# Altium integrated library SW_balance.IntLib: 25 symbols
Pins are listed as number, name and electrical type; pins without a type are passive.

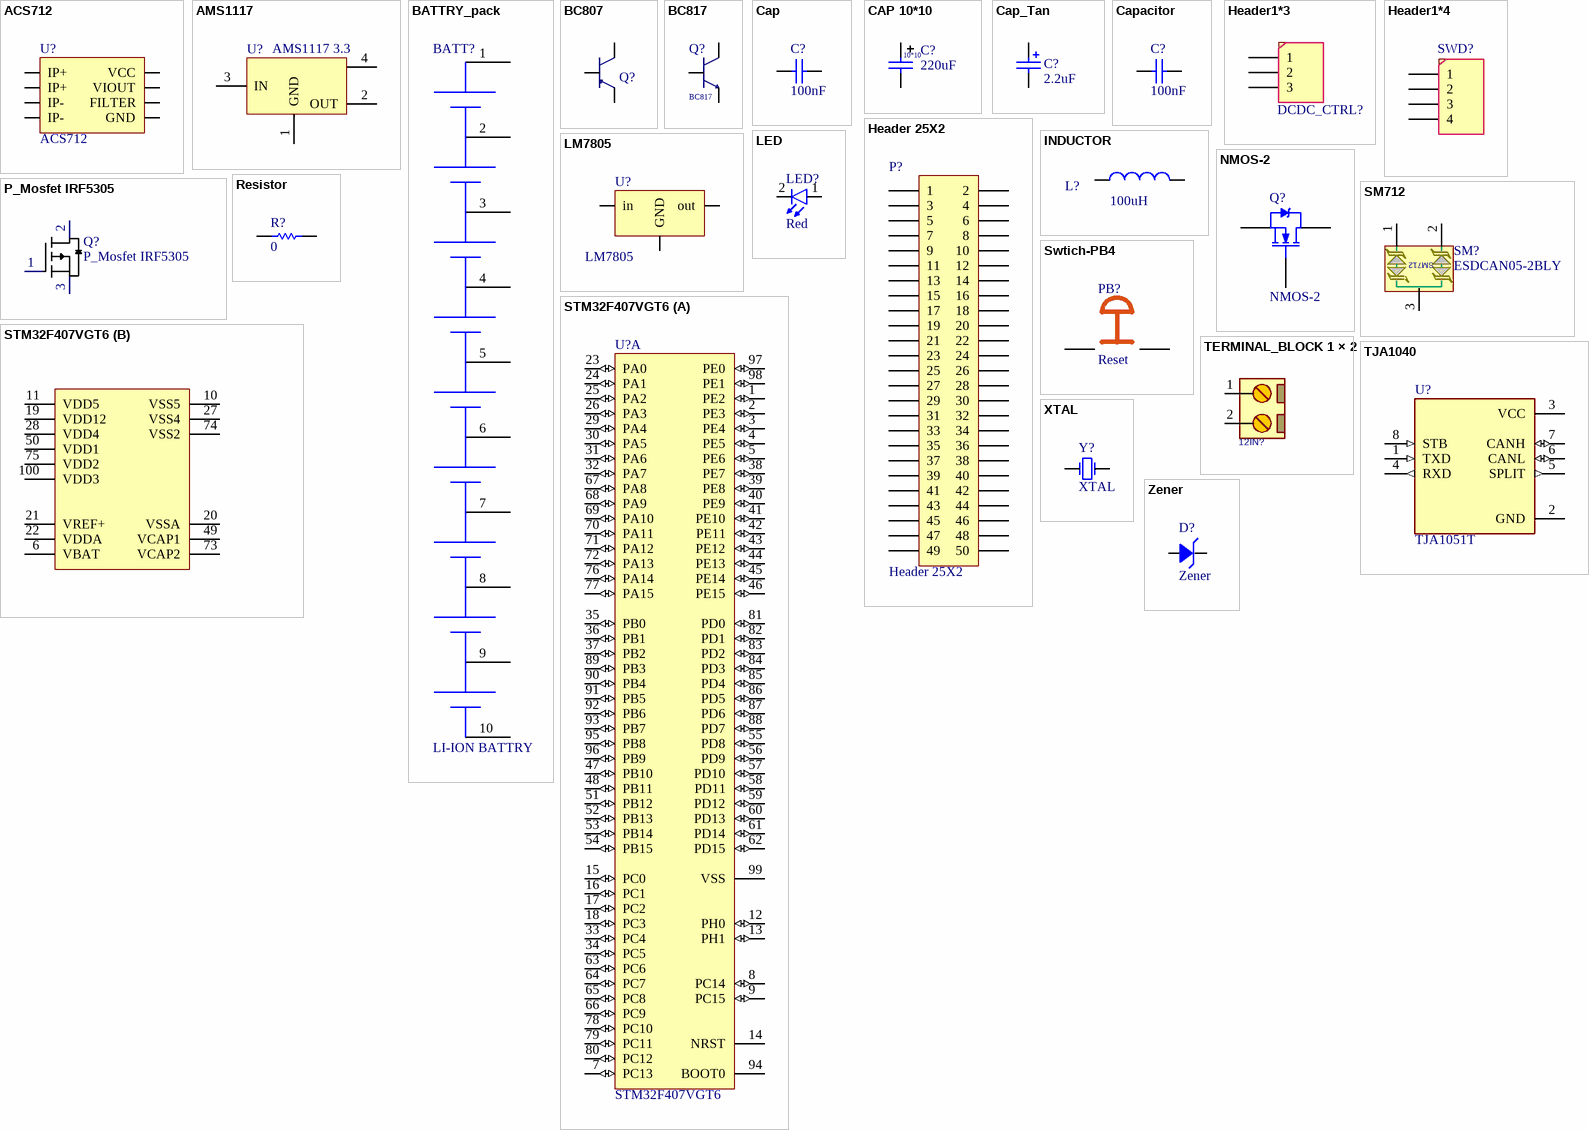
[diagram p0: symbols ACS712 to Zener]

## ACS712
designator U?
Sensing Current
footprint ACS712 (SOIC, 8-Leads, Body 4.90x3.90mm, Pitch 1.27mm, IPC Medium Density)
pins: 1 IP+, 2 IP+, 3 IP-, 4 IP-, 5 GND, 6 FILTER, 7 VIOUT, 8 VCC

## AMS1117
designator U?, comment AMS1117 3.3
footprint AMS1117
pins: 1 GND, 2 OUT, 3 IN, 4 65

## BATTRY_pack
designator BATT?, comment LI-ION BATTRY
footprint terminal block - battery - 2828372 - (terminal block 2 pin)
pins: 1, 2, 3, 4, 5, 6, 7, 8, 9, 10

## BC807
designator Q?, comment PNP  (value not drawn)
45 V, 0.5 A
footprint NPN (SOT23, 3-Leads, Body 2.90x2.45mm, Pitch 0.95mm, IPC Medium Density)
pins: 1 B, 2 E, 3 C

## BC817
designator Q?, comment Transistor: BC817  (hidden comment: NPN transistor)
45 V, 0.5 A
footprint NPN (SOT23, 3-Leads, Body 2.90x2.45mm, Pitch 0.95mm, IPC Medium Density)
pins: 1 B, 2 E, 3 C

## Cap
designator C?, comment 100nF
Capacitor; Published: 8-Jun-2000; LatestRevisionDate: 17-Jul-2002; LatestRevisionNote: Re-released for DXP Platform.; PackageReference: RAD-0.3; Publisher: Altium Limited; PackageDescription: Radial Cap, Thru-Hole; 2 Leads; 0.3 in Pin Spacing; Value: 100nF
footprint CAPC0603
pins: 1, 2

## CAP 10*10
designator C?, comment 220uF
footprint CAPAE220uF-63V (Aluminum Electrolytic Capacitor, Body 13.10x13.10x13.50mm, IPC Low Density)
pins: 1, 2
text: 10*10

## Cap_Tan
designator C?, comment 2.2uF
Tantalium Capacitor Size C; Published: 8-Jun-2000; LatestRevisionDate: 17-Jul-2002; LatestRevisionNote: Re-released for DXP Platform.; PackageReference: C0805; Publisher: Altium Limited
footprint C1206
footprint CAP TAN C (tantalum capacitor c package)
pins: 1, 2
1 alternate drawing of the same symbol

## Capacitor
designator C?, comment 100nF
Capacitor; Published: 8-Jun-2000; LatestRevisionDate: 17-Jul-2002; LatestRevisionNote: Re-released for DXP Platform.; PackageReference: C0805; Publisher: Altium Limited; Value: 100nF
footprint C1206
footprint CAPC0603
pins: 1, 2
1 alternate drawing of the same symbol

## Header1*3
designator DCDC_CTRL?, comment DCDC_CTRL  (value not drawn)
Header, 3-Pin; LatestRevisionDate: 17-Jul-2002; LatestRevisionNote: Re-released for DXP Platform.; Publisher: Altium Limited
footprint HEADER1*3 (2.50mm Male Shrouded Header, 3p)
pins: 1, 2, 3

## Header1*4
designator SWD?
Header, 4-Pin
footprint HEADER1*4 (2.50mm Male Shrouded Header, 4p)
footprint HEADER1*4 (2.50mm Male Shrouded Header, 4p)
pins: 1, 2, 3, 4

## Header 25X2
designator P?
Header, 25-Pin, Dual row; LatestRevisionDate: 17-Jul-2002; LatestRevisionNote: Re-released for DXP Platform.; Publisher: Altium Limited
footprint HDR2X25 (Connector; Header; 25x2 Position)
signal-integrity model Connector
pins: 1, 2, 3, 4, 5, 6, 7, 8, 9, 10, 11, 12, 13, 14, 15, 16, 17, 18, 19, 20, 21, 22, 23, 24, 25, 26, 27, 28, 29, 30, 31, 32, 33, 34, 35, 36, 37, 38, 39, 40, 41, 42, 43, 44, 45, 46, 47, 48, 49, 50

## INDUCTOR
designator L?, comment 100uH
Value: 68uH; Code_IEC: 1005; Published: 8-Jun-2000; Publisher: Altium Limited; LatestRevisionDate: 17-Jul-2002; LatestRevisionNote: Re-released for DXP Platform.; PackageReference: 0402-A; Code_JEITA: 0402
footprint RES1206
pins: 1, 2

## LED
designator LED?, comment Red
LED; Designer: Saeid Jorablo; Organazation: ControTec; Adding Date: 1387/12/22; Color: Red; Size: SMD 0603
footprint LED
pins: 1 A, 2 K

## LM7805
designator U?
IC REG LIN 5V 1A
footprint D2PAK (D2-PAK, 3-Pads, Body 7.93x8.57mm (max), IPC Medium Density)
pins: 1 in, 2 GND, 3 out

## NMOS-2
designator Q?
N-Channel Power MOSFET; Note: Pin 2 is electrically connected to pin 4.; Published: 8-Jun-2000; LatestRevisionDate: 17-Jul-2002; LatestRevisionNote: Re-released for DXP Platform.; DatasheetVersion: PD-9.814; PackageVersion: Feb-1997; PackageReference: TO-220AB; Publisher: Altium Limited; PackageDescription: TO, Thru-Hole, Vertical, Heatsink Mounted; 3 In-Line Leads; Pitch 2.54 mm; ComponentLink1Description: Manufacturer Link; ComponentLink1URL: http://www.irf.com/
footprint dpak (DPAK)
simulation model IRF1010 (Spice Subcircuit)
pins: 1 G, 2 D, 3 S

## P_Mosfet IRF5305
designator Q?
footprint dpak (DPAK)
pins: 1 G, 2 D, 3 S

## Resistor
designator R?, comment 0
0603,0.1W; Published: 8-Jun-2000; LatestRevisionDate: 17-Jul-2002; LatestRevisionNote: Re-released for DXP Platform.; PackageReference: AXIAL-0.5; Publisher: Altium Limited; Value: 0
footprint RESC0603
pins: 1, 2

## SM712
designator SM?, comment ESDCAN05-2BLY
Asymmetrical TVS Diode for Extended Common-Mode RS-485
footprint SOT-23_N (SOT23, 3-Leads, Body 2.9x1.3mm, Pitch 0.95mm, Lead Span 2.5mm, IPC Medium Density)
pins: 1, 2, 3

## STM32F407VGT6
designator U?
STM32 Manta (STM32F407VGT6); Manuf_1: STM; Provided: ST; Ref St: 9175122; ECCN_US/EU: 3A991A2/NEC; Manuf_Part_1: STM32F407VGT6; Distrib: ST; Footprint: QFP100
footprint QFP50P1600X1600X160-100N
part A pins: 1 PE2 (io), 2 PE3 (io), 3 PE4 (io), 4 PE5 (io), 5 PE6 (io), 7 PC13 (io), 8 PC14 (io), 9 PC15 (io), 12 PH0 (io), 13 PH1 (io), 14 NRST, 15 PC0 (io), 16 PC1 (io), 17 PC2 (io), 18 PC3 (io), 23 PA0 (io), 24 PA1 (io), 25 PA2 (io), 26 PA3 (io), 29 PA4 (io), 30 PA5 (io), 31 PA6 (io), 32 PA7 (io), 33 PC4 (io), 34 PC5 (io), 35 PB0 (io), 36 PB1 (io), 37 PB2 (io), 38 PE7 (io), 39 PE8 (io), 40 PE9 (io), 41 PE10 (io), 42 PE11 (io), 43 PE12 (io), 44 PE13 (io), 45 PE14 (io), 46 PE15 (io), 47 PB10 (io), 48 PB11 (io), 51 PB12 (io), 52 PB13 (io), 53 PB14 (io), 54 PB15 (io), 55 PD8 (io), 56 PD9 (io), 57 PD10 (io), 58 PD11 (io), 59 PD12 (io), 60 PD13 (io), 61 PD14 (io), 62 PD15 (io), 63 PC6 (io), 64 PC7 (io), 65 PC8 (io), 66 PC9 (io), 67 PA8 (io), 68 PA9 (io), 69 PA10 (io), 70 PA11 (io), 71 PA12 (io), 72 PA13 (io), 76 PA14 (io), 77 PA15 (io), 78 PC10 (io), 79 PC11 (io), 80 PC12 (io), 81 PD0 (io), 82 PD1 (io), 83 PD2 (io), 84 PD3 (io), 85 PD4 (io), 86 PD5 (io), 87 PD6 (io), 88 PD7 (io), 89 PB3 (io), 90 PB4 (io), 91 PB5 (io), 92 PB6 (io), 93 PB7 (io), 94 BOOT0 (oc), 95 PB8 (io), 96 PB9 (io), 97 PE0 (io), 98 PE1 (io), 99 VSS
part B pins: 6 VBAT, 10 VSS5, 11 VDD5, 19 VDD12, 20 VSSA, 21 VREF+, 22 VDDA, 27 VSS4, 28 VDD4, 49 VCAP1, 50 VDD1, 73 VCAP2, 74 VSS2, 75 VDD2, 100 VDD3

## Swtich-PB4
designator PB?, comment Reset
4-Pin Push Button
footprint SWITCH-PB4
pins: 1, 2

## TERMINAL_BLOCK 1 × 2
designator 12IN?, comment CONN_TB8  (value not drawn)
CONN, TERMINAL BLOCK, 5.08mm pitch; VALUE: CONN_TB8
footprint terminal block - 2828372 (terminal block 2 pin)
pins: 1, 2

## TJA1040
designator U?, comment TJA1051T
1/1 Transceiver Half CANbus 8-SO; MF: NXP USA; MP: TJA1040; Package: SOIC-8 NXP USA; SnapEDA_Link: https://www.snapeda.com/parts/TJA1040/NXP%20USA%20Inc./view-part/563351/?ref=snap; Price: None; Availability: Unavailable; Value: *
footprint SOIC127P600X175-8N
footprint LM358 (SOIC, 8-Leads, Body 4.90x3.90mm, Pitch 1.27mm, IPC Medium Density)
pins: 1 TXD (in), 2 GND (power), 3 VCC (power), 4 RXD (out), 5 SPLIT (out), 6 CANL (io), 7 CANH (io), 8 STB (in)

## XTAL
designator Y?
footprint XTAL
pins: 1, 2

## Zener
designator D?
footprint ZENER (Footprint not found)
pins: 1 A, 2 K